# Altium footprint library Molex Micro-Fit.PcbLib: 19 footprints (part 1 of 2)
Each footprint in its own frame and in the unit in brackets; x right, y up, seen from the top. Pads: shape width x height; smd on the part's side, far side on the other; paste and mask are expansions set on the pad; w line width, h text height; cw(c..) or ccw(c..) is an arc to the next point about the centre after c.
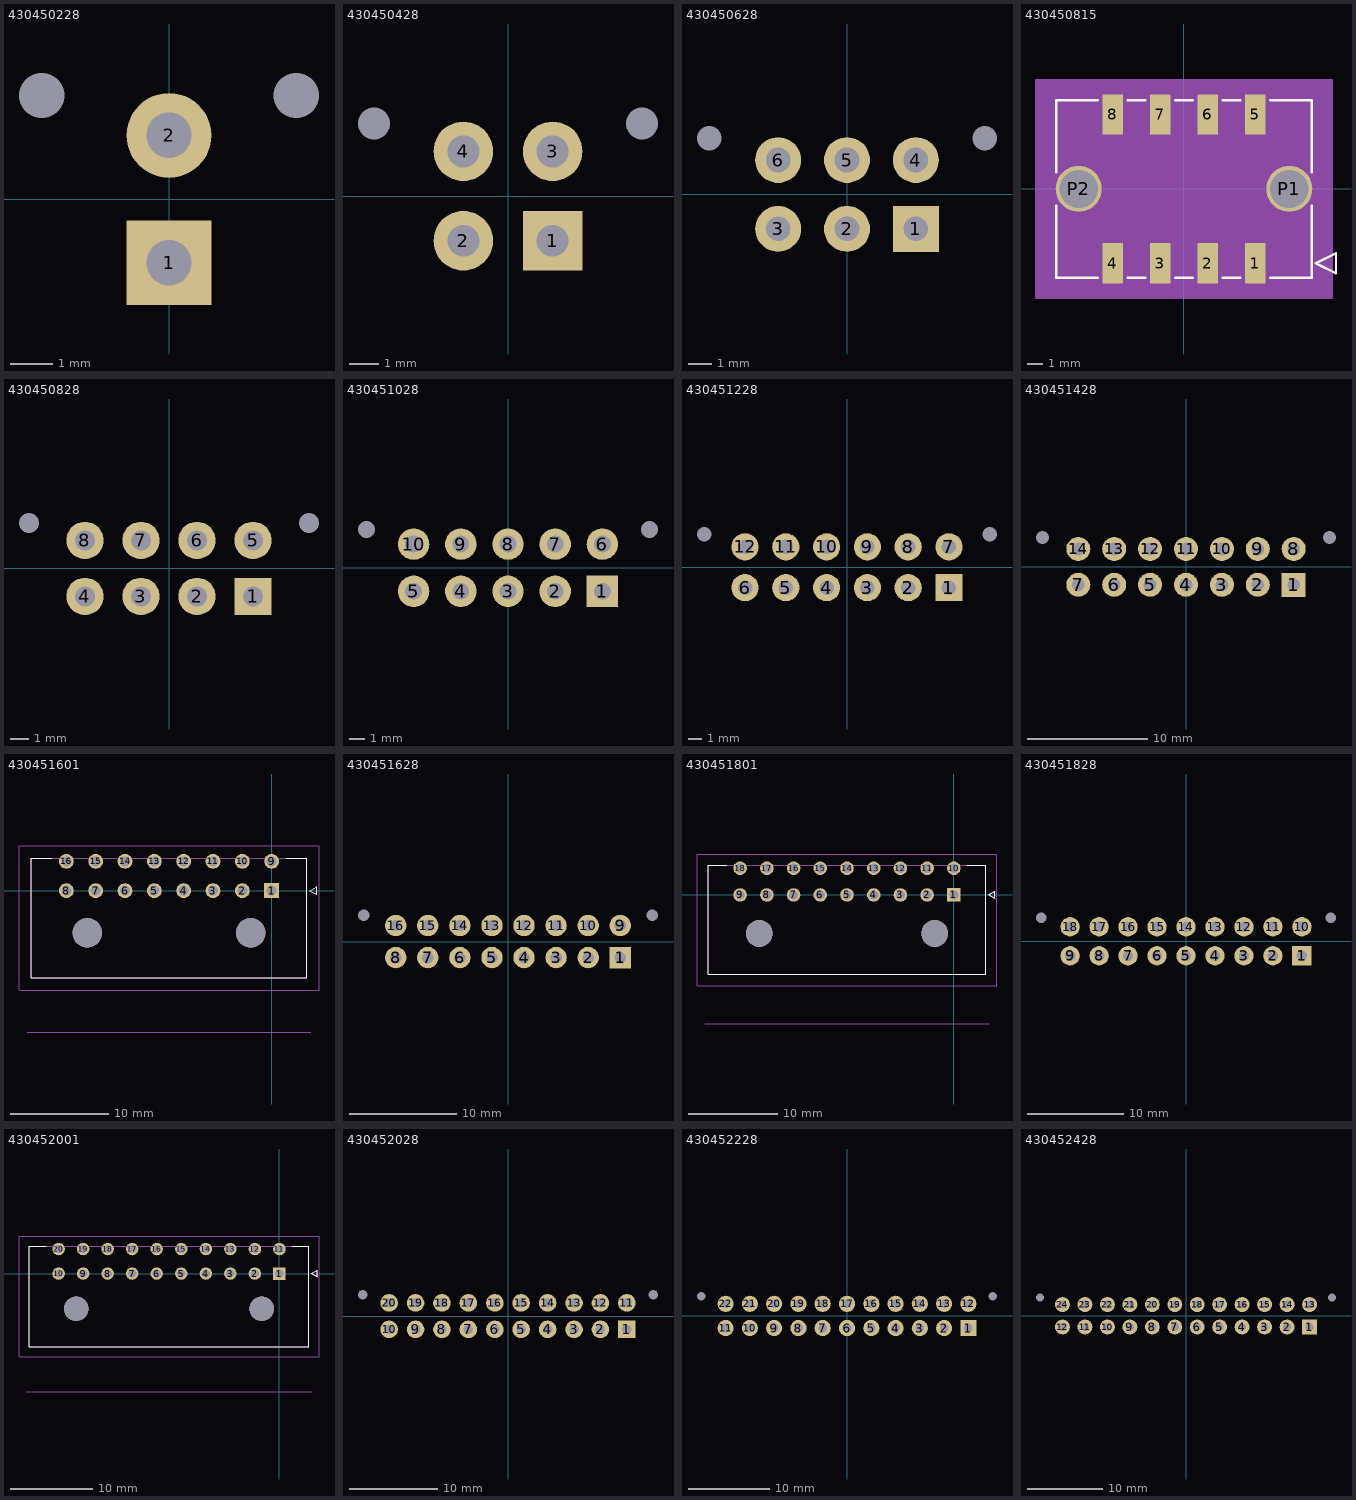
[diagram p0: the footprints below, top view; thin cyan lines are the x and y axes]

## 430450228 [mm] "MicroFit 1x2"
pads (4):
  rect 2x2 hole 1.07: 1(0,-1.5)
  round 2 hole 1.07: 2(0,1.5)
  round 0 hole 1.07: PEG(-3,2.44) PEG(3,2.44)
3D body "430450228.stp": height 10.15, standoff -2.94, extent -3.575,-3.97 3.575,4.8

## 430450428 [mm] "MicroFit 2x2"
pads (6):
  rect 2x2 hole 1.07: 1(1.5,-1.5)
  round 2 hole 1.07: 2(-1.5,-1.5) 3(1.5,1.5) 4(-1.5,1.5)
  round 0 hole 1.07: PEG(-4.5,2.44) PEG(4.5,2.44)
3D body "430450428.stp": height 10.15, standoff -2.94, extent -5.075,-3.97 5.075,4.8

## 430450628 [mm] "MicroFit 3x2"
pads (8):
  rect 2x2 hole 1.07: 1(3,-1.5)
  round 2 hole 1.07: 2(0,-1.5) 3(-3,-1.5) 4(3,1.5) 5(0,1.5) 6(-3,1.5)
  round 0 hole 1.07: PEG(-6,2.44) PEG(6,2.44)
3D body "430450628.stp": height 10.15, standoff -2.94, extent -6.575,-3.97 6.575,4.8

## 430450815 [mm]
pads (10):
  rect 1.27x2.54 smd paste+0 mask+0.076: 1(4.5,-4.7) 2(1.5,-4.7) 3(-1.5,-4.7) 4(-4.5,-4.7) 5(4.5,4.7) 6(1.5,4.7) 7(-1.5,4.7) 8(-4.5,4.7)
  round 2.91 / inner round 1.524 / far side round 2.91 hole 2.41 paste-2539.97 mask+0.076: P1(6.65,0) P2(-6.65,0)
Top Overlay:
  lines w0.152: -8.075,-1.058 -8.075,-5.61 -5.455,-5.61 ; -8.075,1.058 -8.075,5.59 -5.455,5.59 ; -3.545,-5.61 -2.455,-5.61 ; -3.545,5.59 -2.455,5.59 ; -0.545,-5.61 0.545,-5.61 ; -0.545,5.59 0.545,5.59 ; 2.455,-5.61 3.545,-5.61 ; 2.455,5.59 3.545,5.59 ; 5.455,-5.61 8.075,-5.61 8.075,-1.058 ; 5.455,5.59 8.075,5.59 8.075,1.058 ; 8.329,-4.7 9.599,-5.335 9.599,-4.065 8.329,-4.7
Mechanical 13:
  lines w0.127: -8.075,-5.61 -8.075,5.59 8.075,5.59 8.075,-5.61 -8.075,-5.61 ; 8.329,-4.7 9.599,-5.335 9.599,-4.065 8.329,-4.7
Mechanical 15:
  region: 9.345,6.86 -9.345,6.86 -9.345,-6.88 9.345,-6.88
  lines w0.127: -9.345,-6.88 9.345,-6.88 9.345,6.86 -9.345,6.86 -9.345,-6.88
3D body "430450815.stp": height 9.95, standoff -2.01, extent -8.075,-5.608 8.075,5.588

## 430450828 [mm] "MicroFit 4x2"
pads (10):
  rect 2x2 hole 1.07: 1(4.5,-1.5)
  round 2 hole 1.07: 2(1.5,-1.5) 3(-1.5,-1.5) 4(-4.5,-1.5) 5(4.5,1.5) 6(1.5,1.5) 7(-1.5,1.5) 8(-4.5,1.5)
  round 0 hole 1.07: PEG(-7.5,2.44) PEG(7.5,2.44)
3D body "430450828.stp": height 10.15, standoff -2.94, extent -8.075,-3.97 8.075,4.8

## 430451028 [mm] "MicroFit 5x2"
pads (12):
  rect 2x2 hole 1.07: 1(6,-1.5)
  round 2 hole 1.07: 2(3,-1.5) 3(0,-1.5) 4(-3,-1.5) 5(-6,-1.5) 6(6,1.5) 7(3,1.5) 8(0,1.5) 9(-3,1.5) 10(-6,1.5)
  round 0 hole 1.07: PEG(-9,2.44) PEG(9,2.44)
3D body "430451028.stp": height 10.15, standoff -2.94, extent -9.575,-3.97 9.575,4.8

## 430451228 [mm] "MicroFit 6x2"
pads (14):
  rect 2x2 hole 1.07: 1(7.5,-1.5)
  round 2 hole 1.07: 2(4.5,-1.5) 3(1.5,-1.5) 4(-1.5,-1.5) 5(-4.5,-1.5) 6(-7.5,-1.5) 7(7.5,1.5) 8(4.5,1.5) 9(1.5,1.5) 10(-1.5,1.5) 11(-4.5,1.5) 12(-7.5,1.5)
  round 0 hole 1.07: PEG(-10.5,2.44) PEG(10.5,2.44)
3D body "430451228.stp": height 10.15, standoff -2.94, extent -11.075,-3.97 11.075,4.8

## 430451428 [mm] "MicroFit 7x2"
pads (16):
  rect 2x2 hole 1.07: 1(9,-1.5)
  round 2 hole 1.07: 2(6,-1.5) 3(3,-1.5) 4(0,-1.5) 5(-3,-1.5) 6(-6,-1.5) 7(-9,-1.5) 8(9,1.5) 9(6,1.5) 10(3,1.5) 11(0,1.5) 12(-3,1.5) 13(-6,1.5) 14(-9,1.5)
  round 0 hole 1.07: PEG(-12,2.44) PEG(12,2.44)
3D body "430451428.stp": height 10.15, standoff -2.94, extent -12.575,-3.97 12.575,4.8

## 430451601 [mm]
height 8.77
pads (18):
  rect 1.52x1.52 / inner round 1.52 / far side rect 1.52x1.52 hole 1.02 mask+0.076: 1(0,0)
  round 1.52 hole 1.02 mask+0.076: 2(-3,0) 3(-6,0) 4(-9,0) 5(-12,0) 6(-15,0) 7(-18,0) 8(-21,0) 9(0,3) 10(-3,3) 11(-6,3) 12(-9,3) 13(-12,3) 14(-15,3) 15(-18,3) 16(-21,3)
  round 3 hole 3 unplated mask+0.076: ""(-18.85,-4.32) ""(-2.15,-4.32)
Top Overlay:
  lines w0.127: -22.5,3.32 -24.575,3.32 -24.575,-8.92 3.575,-8.92 3.575,3.32 1.5,3.32 ; 3.92,0.01 4.62,0.41 4.62,-0.39 3.92,0.01
Mechanical 13:
  lines w0.127: -25,-14.48 4,-14.48 ; -24.575,-8.92 3.575,-8.92 3.575,3.32 -24.575,3.32 -24.575,-8.92 ; 3.92,0.01 4.62,0.41 4.62,-0.39 3.92,0.01
  text "PCB EDGE" at 4,-14.48 h0.81
  text "NPTH D3.00 +/- 0.05" at -24.82,5.748 h0.5
  text "PTH D1.02 +/- 0.05" at -24.82,6.748 h0.5
  text "MAX" at -24.32,-13.78 h1.02
Mechanical 15:
  lines w0.05: -25.845,-10.19 4.845,-10.19 4.845,4.59 -25.845,4.59 -25.845,-10.19

## 430451628 [mm] "MicroFit 8x2"
pads (18):
  rect 2x2 hole 1.07: 1(10.5,-1.5)
  round 2 hole 1.07: 2(7.5,-1.5) 3(4.5,-1.5) 4(1.5,-1.5) 5(-1.5,-1.5) 6(-4.5,-1.5) 7(-7.5,-1.5) 8(-10.5,-1.5) 9(10.5,1.5) 10(7.5,1.5) 11(4.5,1.5) 12(1.5,1.5) 13(-1.5,1.5) 14(-4.5,1.5) 15(-7.5,1.5) 16(-10.5,1.5)
  round 0 hole 1.07: PEG(-13.5,2.44) PEG(13.5,2.44)
3D body "430451628.stp": height 10.15, standoff -2.94, extent -14.075,-3.97 14.075,4.8

## 430451801 [mm]
height 8.77
pads (20):
  rect 1.52x1.52 / inner round 1.52 / far side rect 1.52x1.52 hole 1.02 mask+0.076: 1(0,0)
  round 1.52 hole 1.02 mask+0.076: 2(-3,0) 3(-6,0) 4(-9,0) 5(-12,0) 6(-15,0) 7(-18,0) 8(-21,0) 9(-24,0) 10(0,3) 11(-3,3) 12(-6,3) 13(-9,3) 14(-12,3) 15(-15,3) 16(-18,3) 17(-21,3) 18(-24,3)
  round 3 hole 3 unplated mask+0.076: ""(-21.85,-4.32) ""(-2.15,-4.32)
Top Overlay:
  lines w0.127: -25.5,3.32 -27.575,3.32 -27.575,-8.92 3.575,-8.92 3.575,3.32 1.5,3.32 ; 3.92,0.01 4.62,-0.39 4.62,0.41 3.92,0.01
Mechanical 13:
  lines w0.127: -28,-14.48 4,-14.48 ; -27.575,-8.92 -27.575,3.32 3.575,3.32 3.575,-8.92 -27.575,-8.92 ; 3.92,0.01 4.62,-0.39 4.62,0.41 3.92,0.01
  text "MAX" at -27.32,-13.78 h1.02
  text "PTH D1.02 +/- 0.05" at -27.82,6.748 h0.5
  text "NPTH D3.00 +/- 0.05" at -27.82,5.748 h0.5
  text "PCB EDGE" at 4,-14.48 h0.81
Mechanical 15:
  lines w0.05: -28.845,-10.19 -28.845,4.59 4.845,4.59 4.845,-10.19 -28.845,-10.19

## 430451828 [mm] "MicroFit 9x2"
pads (20):
  rect 2x2 hole 1.07: 1(12,-1.5)
  round 2 hole 1.07: 2(9,-1.5) 3(6,-1.5) 4(3,-1.5) 5(0,-1.5) 6(-3,-1.5) 7(-6,-1.5) 8(-9,-1.5) 9(-12,-1.5) 10(12,1.5) 11(9,1.5) 12(6,1.5) 13(3,1.5) 14(0,1.5) 15(-3,1.5) 16(-6,1.5) 17(-9,1.5) 18(-12,1.5)
  round 0 hole 1.07: PEG(-15,2.44) PEG(15,2.44)
3D body "430451828.stp": height 10.15, standoff -2.94, extent -15.575,-3.97 15.575,4.8

## 430452001 [mm]
height 8.77
pads (22):
  rect 1.52x1.52 / inner round 1.52 / far side rect 1.52x1.52 hole 1.02 mask+0.076: 1(0,0)
  round 1.52 hole 1.02 mask+0.076: 2(-3,0) 3(-6,0) 4(-9,0) 5(-12,0) 6(-15,0) 7(-18,0) 8(-21,0) 9(-24,0) 10(-27,0) 11(0,3) 12(-3,3) 13(-6,3) 14(-9,3) 15(-12,3) 16(-15,3) 17(-18,3) 18(-21,3) 19(-24,3) 20(-27,3)
  round 3 hole 3 unplated mask+0.076: ""(-24.85,-4.32) ""(-2.15,-4.32)
Top Overlay:
  lines w0.127: -28.5,3.32 -30.575,3.32 -30.575,-8.92 3.575,-8.92 3.575,3.32 1.5,3.32 ; 3.92,0.01 4.62,-0.39 4.62,0.41 3.92,0.01
Mechanical 13:
  lines w0.127: -31,-14.48 4,-14.48 ; -30.575,-8.92 -30.575,3.32 3.575,3.32 3.575,-8.92 -30.575,-8.92 ; 3.92,0.01 4.62,-0.39 4.62,0.41 3.92,0.01
  text "MAX" at -30.32,-13.78 h1.02
  text "PTH D1.02 +/- 0.05" at -30.82,6.748 h0.5
  text "NPTH D3.00 +/- 0.05" at -30.82,5.748 h0.5
  text "PCB EDGE" at 4,-14.48 h0.81
Mechanical 15:
  lines w0.05: -31.845,-10.19 -31.845,4.59 4.845,4.59 4.845,-10.19 -31.845,-10.19
3D body "430452001.stp": height 8.83, standoff -3.12, extent -30.575,-9 3.575,3.24

## 430452028 [mm] "MicroFit 10x2"
pads (22):
  rect 2x2 hole 1.07: 1(13.5,-1.5)
  round 2 hole 1.07: 2(10.5,-1.5) 3(7.5,-1.5) 4(4.5,-1.5) 5(1.5,-1.5) 6(-1.5,-1.5) 7(-4.5,-1.5) 8(-7.5,-1.5) 9(-10.5,-1.5) 10(-13.5,-1.5) 11(13.5,1.5) 12(10.5,1.5) 13(7.5,1.5) 14(4.5,1.5) 15(1.5,1.5) 16(-1.5,1.5) 17(-4.5,1.5) 18(-7.5,1.5) 19(-10.5,1.5) 20(-13.5,1.5)
  round 0 hole 1.07: PEG(-16.5,2.44) PEG(16.5,2.44)
3D body "430452028.stp": height 10.15, standoff -2.94, extent -17.075,-3.97 17.075,4.8

## 430452228 [mm] "MicroFit 11x2"
pads (24):
  rect 2x2 hole 1.07: 1(15,-1.5)
  round 2 hole 1.07: 2(12,-1.5) 3(9,-1.5) 4(6,-1.5) 5(3,-1.5) 6(0,-1.5) 7(-3,-1.5) 8(-6,-1.5) 9(-9,-1.5) 10(-12,-1.5) 11(-15,-1.5) 12(15,1.5) 13(12,1.5) 14(9,1.5) 15(6,1.5) 16(3,1.5) 17(0,1.5) 18(-3,1.5) 19(-6,1.5) 20(-9,1.5) 21(-12,1.5) 22(-15,1.5)
  round 0 hole 1.07: PEG(-18,2.44) PEG(18,2.44)
3D body "430452228.stp": height 10.15, standoff -2.94, extent -18.575,-3.97 18.575,4.8

## 430452428 [mm] "MicroFit 12x2"
pads (26):
  rect 2x2 hole 1.07: 1(16.5,-1.5)
  round 2 hole 1.07: 2(13.5,-1.5) 3(10.5,-1.5) 4(7.5,-1.5) 5(4.5,-1.5) 6(1.5,-1.5) 7(-1.5,-1.5) 8(-4.5,-1.5) 9(-7.5,-1.5) 10(-10.5,-1.5) 11(-13.5,-1.5) 12(-16.5,-1.5) 13(16.5,1.5) 14(13.5,1.5) 15(10.5,1.5) 16(7.5,1.5) 17(4.5,1.5) 18(1.5,1.5) 19(-1.5,1.5) 20(-4.5,1.5) 21(-7.5,1.5) 22(-10.5,1.5) 23(-13.5,1.5) 24(-16.5,1.5)
  round 0 hole 1.07: PEG(-19.5,2.44) PEG(19.5,2.44)
3D body "430452428.stp": height 10.15, standoff -2.94, extent -20.075,-3.97 20.075,4.8